# EAGLE library part NRF8001 (library Nordic)
nRF8001 - Bluetooth Smart Connectivity IC Single-chip Bluetooth® low energy solution Datenblatt <https://www.nordicsemi.com/eng/content/download/2981/38488/file/nRF8001_PS_v1.3.pdf>
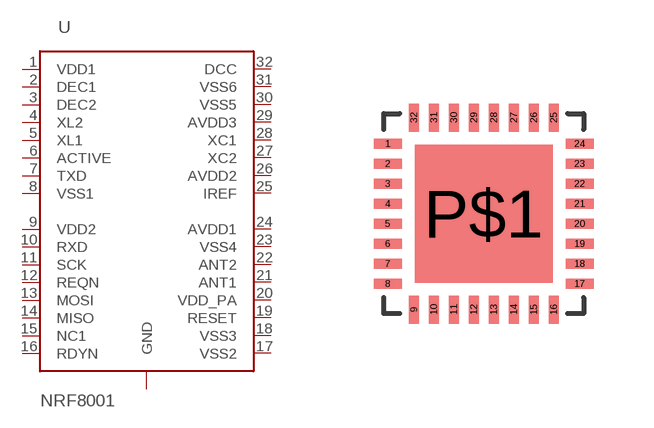
[diagram p0: symbol with the pads of QFN32; footprint QFN32]

Designator prefix U

## NRF8001-R2Q32 (OC_DISTRELEC: 17831036)  [QFN32]
1  VDD1  pwr
2  DEC1  pwr
3  DEC2  pwr
4  XL2  out
5  XL1  in
6  ACTIVE  out
7  TXD  out
8  VSS1  pwr
9  VDD2  pwr
10  RXD  in
11  SCK  in
12  REQN  in
13  MOSI  in
14  MISO  out
15  NC1  nc
16  RDYN  out
17  VSS2  pwr
18  VSS3  pwr
19  RESET  in
20  VDD_PA  pwr
21  ANT1
22  ANT2
23  VSS4  pwr
24  AVDD1  pwr
25  IREF  out
26  AVDD2  pwr
27  XC2  out
28  XC1  in
29  AVDD3  pwr
30  VSS5  pwr
31  VSS6  pwr
32  DCC  pwr
P$1  GND  pwr

## Footprint QFN32 (pad centres in mm)
smd 0.7 x 0.25: 1 -2.4,1.75; 2 -2.4,1.25; 3 -2.4,0.75; 4 -2.4,0.25; 5 -2.4,-0.25; 6 -2.4,-0.75; 7 -2.4,-1.25; 8 -2.4,-1.75; 17 2.4,-1.75; 18 2.4,-1.25; 19 2.4,-0.75; 20 2.4,-0.25; 21 2.4,0.25; 22 2.4,0.75; 23 2.4,1.25; 24 2.4,1.75
smd 0.25 x 0.7: 9 -1.75,-2.4; 10 -1.25,-2.4; 11 -0.75,-2.4; 12 -0.25,-2.4; 13 0.25,-2.4; 14 0.75,-2.4; 15 1.25,-2.4; 16 1.75,-2.4; 25 1.75,2.4; 26 1.25,2.4; 27 0.75,2.4; 28 0.25,2.4; 29 -0.25,2.4; 30 -0.75,2.4; 31 -1.25,2.4; 32 -1.75,2.4
smd 3.45 x 3.45: P$1 0,0